# Altium integrated library C0603G104K5RACT250.IntLib: 1 symbol
Pins are listed as number, name and electrical type; pins without a type are passive.

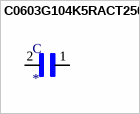
[diagram p0: symbol C0603G104K5RACT250]

## C0603G104K5RACT250
designator C
Multilayer Ceramic Capacitors MLCC - SMD/SMT 50V 0.1uF 0603 X7R 0.1; MF: Kemet; MP: C0603G104K5RACT250; Value: *; Price: None; Availability: Unavailable; SnapEDA_Link: https://www.snapeda.com/parts/C0603G104K5RACT250/Kemet/view-part/493858/?ref=snap; Package: 0603 Kemet
footprint CAPC1608X90
pins: 1, 2